# Altium footprint library ABRACON ASDMB.PCBLIB: 1 footprints
Each footprint in its own frame and in the unit in brackets; x right, y up, seen from the top. Pads: shape width x height; smd on the part's side, far side on the other; paste and mask are expansions set on the pad; w line width, h text height; cw(c..) or ccw(c..) is an arc to the next point about the centre after c.
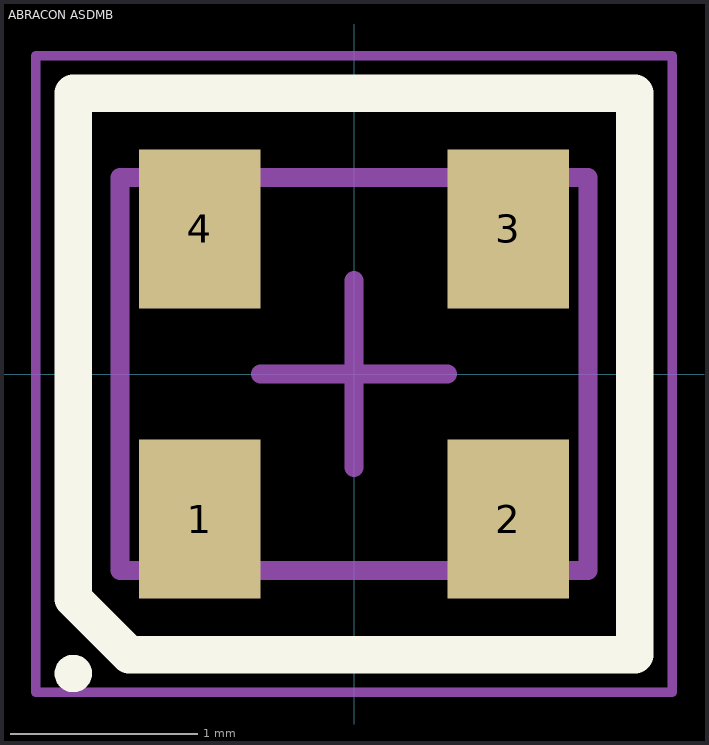
[diagram p0: the footprint, top view; thin cyan lines are the x and y axes]

## ABRACON ASDMB [mm] "MEMS Clock, 4-Leads, Body 2.00x2.45mm, Pitch 1.65mm, IPC Medium Density"
height 0.85
pads (4):
  rect 0.65x0.85 smd: 1(-0.825,-0.775) 2(0.825,-0.775) 3(0.825,0.775) 4(-0.825,0.775)
Top Overlay:
  circle w0.1: c-1.5,-1.6 r0.05
  lines w0.2: -1.5,-1.2 -1.5,1.5 1.5,1.5 1.5,-1.5 -1.2,-1.5 -1.5,-1.2
Mechanical 13:
  lines w0.1: -1.25,-1.05 1.25,-1.05 1.25,1.05 -1.25,1.05 -1.25,-1.05
Mechanical 15:
  lines w0.05: -1.7,-1.7 1.7,-1.7 1.7,1.7 -1.7,1.7 -1.7,-1.7
  lines w0.1: -0.5,0 0.5,0 ; 0,-0.5 0,0.5
3D body: height 0.85, standoff 0, extent -1.25,-1.05 1.25,1.05